# Altium schematic symbol library kmilo17pet-LT_OpAmp_LT2000.SchLib: 1710 symbols (part 73 of 75)
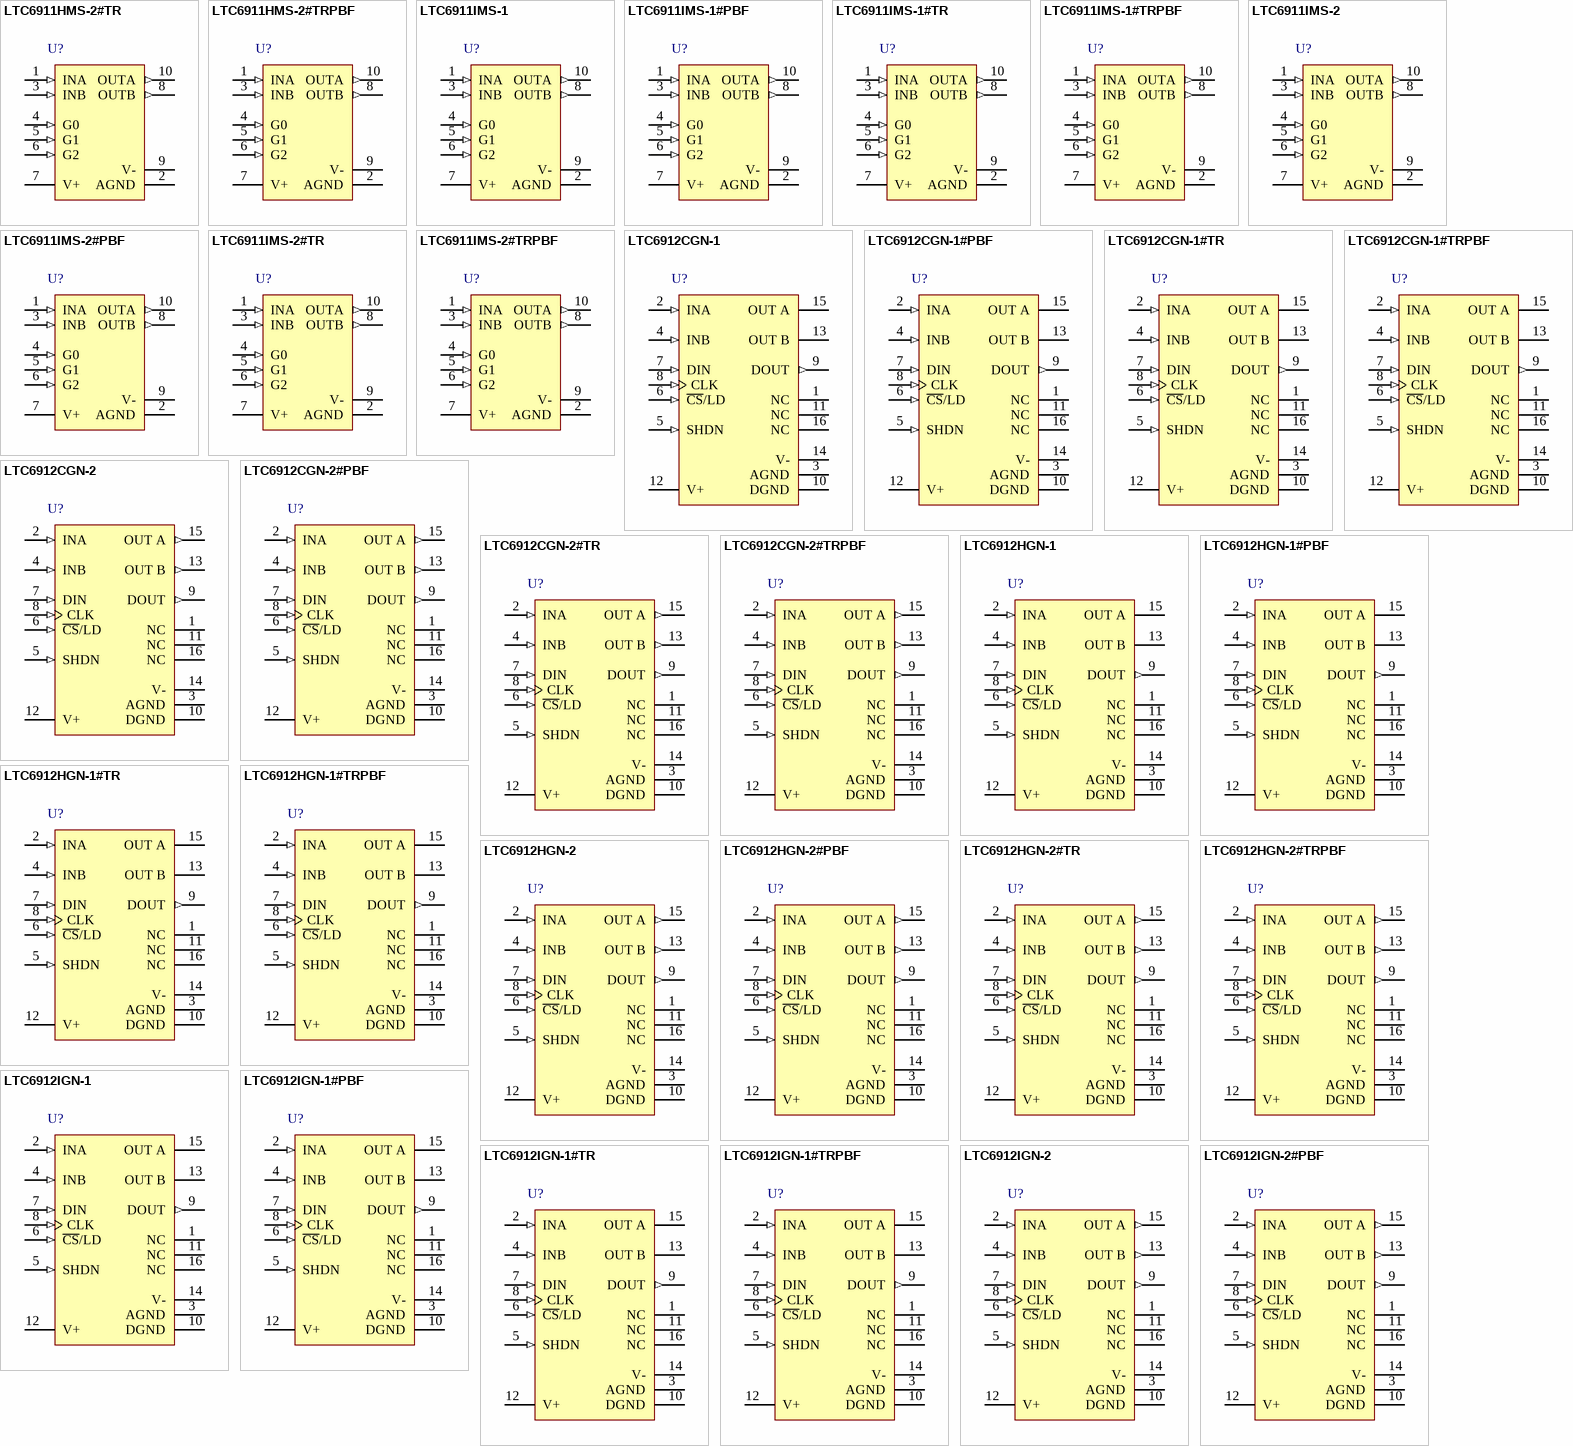
[diagram p152: symbols LTC6911HMS-2#TR to LTC6912IGN-2#PBF]

## LTC6912CGN-1
designator U?
Dual Channel, Dual Programmable Gain Amplifier with Serial Digital Interface, 30 MHz Typical GBW, 16 V/us Typical SR, 2.7 to 10.5 V, 16-Pin SOP (GN-16), Commercial; Linear Technology Part Number: LTC6912-1; Manufacturer: Linear Technology; PartNumber: LTC6912CGN-1; Channels (#): 2; GBW (MHz) Typical: 30; Is (mA) Typical: 1.75; SR (V/us) Typical: 16; Vs Max (V): 10.5; Vs Min (V): 2.7; DatasheetVersion: Rev. A; PackageVersion: Rev B; PackageReference: LT-GN-16; PackageDescription: 16-Lead Plastic SSOP, Body 4.9 x 3.9 mm, Pitch 0.635 mm; Type: PGA; Vos (mV) Typical: 2; Mounting Technology: Surface Mount; ComponentLink1Description: Manufacturer URL; ComponentLink1URL: http://www.linear.com/; ComponentLink2Description: Datasheet; ComponentLink2URL: http://cds.linear.com/docs/en/datasheet/6912fa.pdf; ComponentLink3Description: Package Specification; ComponentLink3URL: http://cds.linear.com/docs/en/packaging/05081641_B_GN16.pdf
footprint LT-GN-16_N (SOP, 16-Leads, Body 4.9x3.9mm, Pitch 0.635mm, IPC Medium Density)
footprint LT-GN-16_L (SOP, 16-Leads, Body 4.9x3.9mm, Pitch 0.635mm, IPC High Density)
footprint LT-GN-16_M (SOP, 16-Leads, Body 4.9x3.9mm, Pitch 0.635mm, IPC Low Density)
pins: 1 NC, 2 INA (in) "Analog Inputs. The input signal to the A channel amplifier of the LTC6912-X is the voltage difference between the INA pin and AGND pin. Likewise, the input signal to the B channel amplifier of the LTC6912-X is the voltage (See Datasheet)", 3 AGND (power), 4 INB (in) "Analog Inputs. The input signal to the A channel amplifier of the LTC6912-X is the voltage difference between the INA pin and AGND pin. Likewise, the input signal to the B channel amplifier of the LTC6912-X is the voltage (See Datasheet)", 5 SHDN (in) "CMOS Compatible Logic Hardware Shutdown Input. The LTC6912-X has two shutdown modes. One is a software shutdown state which can be software programmed into either Channel A, Channel B, or both. The software shutdown, when (See Datasheet)", 6 ~{CS}/LD (in) "TTL/CMOS Compatible Logic Input. When this pin is asserted low, the CLK pin is enabled, and the 8-bit shift register serially shifts the shift register contents and whatever data is present on the DIN pin into the shift (See Datasheet)", 7 DIN (in) "TTL/CMOS Compatible Logic Serial Data Input. The serial interface is synchronously loaded MSB first via DIN on the rising edge of CLK with C\S\/LD asserted low.", 8 CLK (in) "TTL/CMOS Compatible Logic Input. With C\S\/LD asserted low, the clock synchronizes the loading of the serial shift register on its rising and falling edges. Data is shifted in at DIN on the rising edge of CLK and is shifted (See Datasheet)", 9 DOUT (out) "TTL/CMOS Compatible Logic Output. The MSB of the shift register contents is shifted out at DOUT on the falling edge of CLK. The output at DOUT swings between V+ and DGND, and is rated to drive approximately 15pF.", 10 DGND (power) "Digital Ground: The DGND pin defines the potential from which LOGIC levels VIH and VIL for the 3-wire serial digital interface are referenced. The recommended connection of DGND depends on how power is applied to the LTC6912 (See Datasheet)", 11 NC, 12 V+ (power) "Power Supply Pins. The V+ and V- pins should be bypassed with 0.1uF capacitors to an adequate analog ground plane using the shortest possible wiring. Electrically clean supplies and a low impedance ground are important for (See Datasheet)", 13 OUT B (hiz) "Analog Output. These pins are the output of the A and B channel amplifiers respectively. Each operational amplifier can swing rail-to-rail (V+ to V-) as specified in the Electrical Characteristics table. For best (See Datasheet)", 14 V- (power) "Power Supply Pins. The V+ and V- pins should be bypassed with 0.1uF capacitors to an adequate analog ground plane using the shortest possible wiring. Electrically clean supplies and a low impedance ground are important for (See Datasheet)", 15 OUT A (hiz) "Analog Output. These pins are the output of the A and B channel amplifiers respectively. Each operational amplifier can swing rail-to-rail (V+ to V-) as specified in the Electrical Characteristics table. For best (See Datasheet)", 16 NC

## LTC6912CGN-1#PBF
designator U?
Dual Channel, Dual Programmable Gain Amplifier with Serial Digital Interface, 30 MHz Typical GBW, 16 V/us Typical SR, 2.7 to 10.5 V, 16-Pin SOP (GN-16), Commercial, Pb-Free; Linear Technology Part Number: LTC6912-1; Manufacturer: Linear Technology; PartNumber: LTC6912CGN-1#PBF; Channels (#): 2; GBW (MHz) Typical: 30; Is (mA) Typical: 1.75; SR (V/us) Typical: 16; Vs Max (V): 10.5; Vs Min (V): 2.7; DatasheetVersion: Rev. A; PackageVersion: Rev B; PackageReference: LT-GN-16; PackageDescription: 16-Lead Plastic SSOP, Body 4.9 x 3.9 mm, Pitch 0.635 mm; Supplier 1: Digi-Key; Supplier Part Number 1: LTC6912CGN-1#PBF-ND; Supplier 2: Farnell; Supplier Part Number 2: 1330978; Supplier 3: Newark; Supplier Part Number 3: 57M0397; RoHS: Pb-Free; Type: PGA; Vos (mV) Typical: 2; Mounting Technology: Surface Mount; ComponentLink1Description: Manufacturer URL; ComponentLink1URL: http://www.linear.com/; ComponentLink2Description: Datasheet; ComponentLink2URL: http://cds.linear.com/docs/en/datasheet/6912fa.pdf; ComponentLink3Description: Package Specification; ComponentLink3URL: http://cds.linear.com/docs/en/packaging/05081641_B_GN16.pdf
footprint LT-GN-16_N (SOP, 16-Leads, Body 4.9x3.9mm, Pitch 0.635mm, IPC Medium Density)
footprint LT-GN-16_L (SOP, 16-Leads, Body 4.9x3.9mm, Pitch 0.635mm, IPC High Density)
footprint LT-GN-16_M (SOP, 16-Leads, Body 4.9x3.9mm, Pitch 0.635mm, IPC Low Density)
pins: 1 NC, 2 INA (in) "Analog Inputs. The input signal to the A channel amplifier of the LTC6912-X is the voltage difference between the INA pin and AGND pin. Likewise, the input signal to the B channel amplifier of the LTC6912-X is the voltage (See Datasheet)", 3 AGND (power), 4 INB (in) "Analog Inputs. The input signal to the A channel amplifier of the LTC6912-X is the voltage difference between the INA pin and AGND pin. Likewise, the input signal to the B channel amplifier of the LTC6912-X is the voltage (See Datasheet)", 5 SHDN (in) "CMOS Compatible Logic Hardware Shutdown Input. The LTC6912-X has two shutdown modes. One is a software shutdown state which can be software programmed into either Channel A, Channel B, or both. The software shutdown, when (See Datasheet)", 6 ~{CS}/LD (in) "TTL/CMOS Compatible Logic Input. When this pin is asserted low, the CLK pin is enabled, and the 8-bit shift register serially shifts the shift register contents and whatever data is present on the DIN pin into the shift (See Datasheet)", 7 DIN (in) "TTL/CMOS Compatible Logic Serial Data Input. The serial interface is synchronously loaded MSB first via DIN on the rising edge of CLK with C\S\/LD asserted low.", 8 CLK (in) "TTL/CMOS Compatible Logic Input. With C\S\/LD asserted low, the clock synchronizes the loading of the serial shift register on its rising and falling edges. Data is shifted in at DIN on the rising edge of CLK and is shifted (See Datasheet)", 9 DOUT (out) "TTL/CMOS Compatible Logic Output. The MSB of the shift register contents is shifted out at DOUT on the falling edge of CLK. The output at DOUT swings between V+ and DGND, and is rated to drive approximately 15pF.", 10 DGND (power) "Digital Ground: The DGND pin defines the potential from which LOGIC levels VIH and VIL for the 3-wire serial digital interface are referenced. The recommended connection of DGND depends on how power is applied to the LTC6912 (See Datasheet)", 11 NC, 12 V+ (power) "Power Supply Pins. The V+ and V- pins should be bypassed with 0.1uF capacitors to an adequate analog ground plane using the shortest possible wiring. Electrically clean supplies and a low impedance ground are important for (See Datasheet)", 13 OUT B (hiz) "Analog Output. These pins are the output of the A and B channel amplifiers respectively. Each operational amplifier can swing rail-to-rail (V+ to V-) as specified in the Electrical Characteristics table. For best (See Datasheet)", 14 V- (power) "Power Supply Pins. The V+ and V- pins should be bypassed with 0.1uF capacitors to an adequate analog ground plane using the shortest possible wiring. Electrically clean supplies and a low impedance ground are important for (See Datasheet)", 15 OUT A (hiz) "Analog Output. These pins are the output of the A and B channel amplifiers respectively. Each operational amplifier can swing rail-to-rail (V+ to V-) as specified in the Electrical Characteristics table. For best (See Datasheet)", 16 NC

## LTC6912CGN-1#TR
designator U?
Dual Channel, Dual Programmable Gain Amplifier with Serial Digital Interface, 30 MHz Typical GBW, 16 V/us Typical SR, 2.7 to 10.5 V, 16-Pin SOP (GN-16), Commercial, Reel; Linear Technology Part Number: LTC6912-1; Manufacturer: Linear Technology; PartNumber: LTC6912CGN-1#TR; Channels (#): 2; GBW (MHz) Typical: 30; Is (mA) Typical: 1.75; SR (V/us) Typical: 16; Vs Max (V): 10.5; Vs Min (V): 2.7; DatasheetVersion: Rev. A; PackageVersion: Rev B; PackageReference: LT-GN-16; PackageDescription: 16-Lead Plastic SSOP, Body 4.9 x 3.9 mm, Pitch 0.635 mm; Packing: Reel; Type: PGA; Vos (mV) Typical: 2; Mounting Technology: Surface Mount; ComponentLink1Description: Manufacturer URL; ComponentLink1URL: http://www.linear.com/; ComponentLink2Description: Datasheet; ComponentLink2URL: http://cds.linear.com/docs/en/datasheet/6912fa.pdf; ComponentLink3Description: Package Specification; ComponentLink3URL: http://cds.linear.com/docs/en/packaging/05081641_B_GN16.pdf
footprint LT-GN-16_N (SOP, 16-Leads, Body 4.9x3.9mm, Pitch 0.635mm, IPC Medium Density)
footprint LT-GN-16_L (SOP, 16-Leads, Body 4.9x3.9mm, Pitch 0.635mm, IPC High Density)
footprint LT-GN-16_M (SOP, 16-Leads, Body 4.9x3.9mm, Pitch 0.635mm, IPC Low Density)
pins: 1 NC, 2 INA (in) "Analog Inputs. The input signal to the A channel amplifier of the LTC6912-X is the voltage difference between the INA pin and AGND pin. Likewise, the input signal to the B channel amplifier of the LTC6912-X is the voltage (See Datasheet)", 3 AGND (power), 4 INB (in) "Analog Inputs. The input signal to the A channel amplifier of the LTC6912-X is the voltage difference between the INA pin and AGND pin. Likewise, the input signal to the B channel amplifier of the LTC6912-X is the voltage (See Datasheet)", 5 SHDN (in) "CMOS Compatible Logic Hardware Shutdown Input. The LTC6912-X has two shutdown modes. One is a software shutdown state which can be software programmed into either Channel A, Channel B, or both. The software shutdown, when (See Datasheet)", 6 ~{CS}/LD (in) "TTL/CMOS Compatible Logic Input. When this pin is asserted low, the CLK pin is enabled, and the 8-bit shift register serially shifts the shift register contents and whatever data is present on the DIN pin into the shift (See Datasheet)", 7 DIN (in) "TTL/CMOS Compatible Logic Serial Data Input. The serial interface is synchronously loaded MSB first via DIN on the rising edge of CLK with C\S\/LD asserted low.", 8 CLK (in) "TTL/CMOS Compatible Logic Input. With C\S\/LD asserted low, the clock synchronizes the loading of the serial shift register on its rising and falling edges. Data is shifted in at DIN on the rising edge of CLK and is shifted (See Datasheet)", 9 DOUT (out) "TTL/CMOS Compatible Logic Output. The MSB of the shift register contents is shifted out at DOUT on the falling edge of CLK. The output at DOUT swings between V+ and DGND, and is rated to drive approximately 15pF.", 10 DGND (power) "Digital Ground: The DGND pin defines the potential from which LOGIC levels VIH and VIL for the 3-wire serial digital interface are referenced. The recommended connection of DGND depends on how power is applied to the LTC6912 (See Datasheet)", 11 NC, 12 V+ (power) "Power Supply Pins. The V+ and V- pins should be bypassed with 0.1uF capacitors to an adequate analog ground plane using the shortest possible wiring. Electrically clean supplies and a low impedance ground are important for (See Datasheet)", 13 OUT B (hiz) "Analog Output. These pins are the output of the A and B channel amplifiers respectively. Each operational amplifier can swing rail-to-rail (V+ to V-) as specified in the Electrical Characteristics table. For best (See Datasheet)", 14 V- (power) "Power Supply Pins. The V+ and V- pins should be bypassed with 0.1uF capacitors to an adequate analog ground plane using the shortest possible wiring. Electrically clean supplies and a low impedance ground are important for (See Datasheet)", 15 OUT A (hiz) "Analog Output. These pins are the output of the A and B channel amplifiers respectively. Each operational amplifier can swing rail-to-rail (V+ to V-) as specified in the Electrical Characteristics table. For best (See Datasheet)", 16 NC

## LTC6912CGN-1#TRPBF
designator U?
Dual Channel, Dual Programmable Gain Amplifier with Serial Digital Interface, 30 MHz Typical GBW, 16 V/us Typical SR, 2.7 to 10.5 V, 16-Pin SOP (GN-16), Commercial, Pb-Free, Reel; Linear Technology Part Number: LTC6912-1; Manufacturer: Linear Technology; PartNumber: LTC6912CGN-1#TRPBF; Channels (#): 2; GBW (MHz) Typical: 30; Is (mA) Typical: 1.75; SR (V/us) Typical: 16; Vs Max (V): 10.5; Vs Min (V): 2.7; DatasheetVersion: Rev. A; PackageVersion: Rev B; PackageReference: LT-GN-16; PackageDescription: 16-Lead Plastic SSOP, Body 4.9 x 3.9 mm, Pitch 0.635 mm; Supplier 1: Digi-Key; Supplier Part Number 1: LTC6912CGN-1#TRPBF-ND; Packing: Reel; RoHS: Pb-Free; Type: PGA; Vos (mV) Typical: 2; Mounting Technology: Surface Mount; ComponentLink1Description: Manufacturer URL; ComponentLink1URL: http://www.linear.com/; ComponentLink2Description: Datasheet; ComponentLink2URL: http://cds.linear.com/docs/en/datasheet/6912fa.pdf; ComponentLink3Description: Package Specification; ComponentLink3URL: http://cds.linear.com/docs/en/packaging/05081641_B_GN16.pdf
footprint LT-GN-16_N (SOP, 16-Leads, Body 4.9x3.9mm, Pitch 0.635mm, IPC Medium Density)
footprint LT-GN-16_L (SOP, 16-Leads, Body 4.9x3.9mm, Pitch 0.635mm, IPC High Density)
footprint LT-GN-16_M (SOP, 16-Leads, Body 4.9x3.9mm, Pitch 0.635mm, IPC Low Density)
pins: 1 NC, 2 INA (in) "Analog Inputs. The input signal to the A channel amplifier of the LTC6912-X is the voltage difference between the INA pin and AGND pin. Likewise, the input signal to the B channel amplifier of the LTC6912-X is the voltage (See Datasheet)", 3 AGND (power), 4 INB (in) "Analog Inputs. The input signal to the A channel amplifier of the LTC6912-X is the voltage difference between the INA pin and AGND pin. Likewise, the input signal to the B channel amplifier of the LTC6912-X is the voltage (See Datasheet)", 5 SHDN (in) "CMOS Compatible Logic Hardware Shutdown Input. The LTC6912-X has two shutdown modes. One is a software shutdown state which can be software programmed into either Channel A, Channel B, or both. The software shutdown, when (See Datasheet)", 6 ~{CS}/LD (in) "TTL/CMOS Compatible Logic Input. When this pin is asserted low, the CLK pin is enabled, and the 8-bit shift register serially shifts the shift register contents and whatever data is present on the DIN pin into the shift (See Datasheet)", 7 DIN (in) "TTL/CMOS Compatible Logic Serial Data Input. The serial interface is synchronously loaded MSB first via DIN on the rising edge of CLK with C\S\/LD asserted low.", 8 CLK (in) "TTL/CMOS Compatible Logic Input. With C\S\/LD asserted low, the clock synchronizes the loading of the serial shift register on its rising and falling edges. Data is shifted in at DIN on the rising edge of CLK and is shifted (See Datasheet)", 9 DOUT (out) "TTL/CMOS Compatible Logic Output. The MSB of the shift register contents is shifted out at DOUT on the falling edge of CLK. The output at DOUT swings between V+ and DGND, and is rated to drive approximately 15pF.", 10 DGND (power) "Digital Ground: The DGND pin defines the potential from which LOGIC levels VIH and VIL for the 3-wire serial digital interface are referenced. The recommended connection of DGND depends on how power is applied to the LTC6912 (See Datasheet)", 11 NC, 12 V+ (power) "Power Supply Pins. The V+ and V- pins should be bypassed with 0.1uF capacitors to an adequate analog ground plane using the shortest possible wiring. Electrically clean supplies and a low impedance ground are important for (See Datasheet)", 13 OUT B (hiz) "Analog Output. These pins are the output of the A and B channel amplifiers respectively. Each operational amplifier can swing rail-to-rail (V+ to V-) as specified in the Electrical Characteristics table. For best (See Datasheet)", 14 V- (power) "Power Supply Pins. The V+ and V- pins should be bypassed with 0.1uF capacitors to an adequate analog ground plane using the shortest possible wiring. Electrically clean supplies and a low impedance ground are important for (See Datasheet)", 15 OUT A (hiz) "Analog Output. These pins are the output of the A and B channel amplifiers respectively. Each operational amplifier can swing rail-to-rail (V+ to V-) as specified in the Electrical Characteristics table. For best (See Datasheet)", 16 NC

## LTC6912CGN-2
designator U?
Dual Channel, Dual Programmable Gain Amplifier with Serial Digital Interface, 30 MHz Typical GBW, 16 V/us Typical SR, 2.7 to 10.5 V, 16-Pin SOP (GN-16), Commercial; Linear Technology Part Number: LTC6912-2; Manufacturer: Linear Technology; PartNumber: LTC6912CGN-2; Channels (#): 2; GBW (MHz) Typical: 30; Is (mA) Typical: 1.75; SR (V/us) Typical: 16; Vs Max (V): 10.5; Vs Min (V): 2.7; DatasheetVersion: Rev. A; PackageVersion: Rev B; PackageReference: LT-GN-16; PackageDescription: 16-Lead Plastic SSOP, Body 4.9 x 3.9 mm, Pitch 0.635 mm; Type: PGA; Vos (mV) Typical: 2; Mounting Technology: Surface Mount; ComponentLink1Description: Manufacturer URL; ComponentLink1URL: http://www.linear.com/; ComponentLink2Description: Datasheet; ComponentLink2URL: http://cds.linear.com/docs/en/datasheet/6912fa.pdf; ComponentLink3Description: Package Specification; ComponentLink3URL: http://cds.linear.com/docs/en/packaging/05081641_B_GN16.pdf
footprint LT-GN-16_N (SOP, 16-Leads, Body 4.9x3.9mm, Pitch 0.635mm, IPC Medium Density)
footprint LT-GN-16_L (SOP, 16-Leads, Body 4.9x3.9mm, Pitch 0.635mm, IPC High Density)
footprint LT-GN-16_M (SOP, 16-Leads, Body 4.9x3.9mm, Pitch 0.635mm, IPC Low Density)
pins: 1 NC, 2 INA (in) "Analog Inputs.", 3 AGND (power) "Analog Ground.", 4 INB (in) "Analog Inputs.", 5 SHDN (in) "CMOS Compatible Logic Hardware Shutdown Input.", 6 ~{CS}/LD (in) "TTL/CMOS Compatible Logic Input.", 7 DIN (in) "TTL/CMOS Compatible Logic Serial Data Input.", 8 CLK (in) "TTL/CMOS Compatible Logic Input.", 9 DOUT (out) "TTL/CMOS Compatible Logic Output.", 10 DGND (power) "Digital Ground: The DGND pin defines the potential from which LOGIC levels VIH and VIL for the 3-wire serial digital interface are referenced.", 11 NC, 12 V+ (power) "Power Supply Pins.", 13 OUT B (out) "Analog Output.", 14 V- (power) "Power Supply Pins.", 15 OUT A (out) "Analog Output.", 16 NC

## LTC6912CGN-2#PBF
designator U?
Dual Channel, Dual Programmable Gain Amplifier with Serial Digital Interface, 30 MHz Typical GBW, 16 V/us Typical SR, 2.7 to 10.5 V, 16-Pin SOP (GN-16), Commercial, Pb-Free; Linear Technology Part Number: LTC6912-2; Manufacturer: Linear Technology; PartNumber: LTC6912CGN-2#PBF; Channels (#): 2; GBW (MHz) Typical: 30; Is (mA) Typical: 1.75; SR (V/us) Typical: 16; Vs Max (V): 10.5; Vs Min (V): 2.7; DatasheetVersion: Rev. A; PackageVersion: Rev B; PackageReference: LT-GN-16; PackageDescription: 16-Lead Plastic SSOP, Body 4.9 x 3.9 mm, Pitch 0.635 mm; Supplier 1: Digi-Key; Supplier Part Number 1: LTC6912CGN-2#PBF-ND; Supplier 2: Farnell; Supplier Part Number 2: 1330979; Supplier 3: Newark; Supplier Part Number 3: 57M0401; RoHS: Pb-Free; Type: PGA; Vos (mV) Typical: 2; Mounting Technology: Surface Mount; ComponentLink1Description: Manufacturer URL; ComponentLink1URL: http://www.linear.com/; ComponentLink2Description: Datasheet; ComponentLink2URL: http://cds.linear.com/docs/en/datasheet/6912fa.pdf; ComponentLink3Description: Package Specification; ComponentLink3URL: http://cds.linear.com/docs/en/packaging/05081641_B_GN16.pdf
footprint LT-GN-16_N (SOP, 16-Leads, Body 4.9x3.9mm, Pitch 0.635mm, IPC Medium Density)
footprint LT-GN-16_L (SOP, 16-Leads, Body 4.9x3.9mm, Pitch 0.635mm, IPC High Density)
footprint LT-GN-16_M (SOP, 16-Leads, Body 4.9x3.9mm, Pitch 0.635mm, IPC Low Density)
pins: 1 NC, 2 INA (in) "Analog Inputs.", 3 AGND (power) "Analog Ground.", 4 INB (in) "Analog Inputs.", 5 SHDN (in) "CMOS Compatible Logic Hardware Shutdown Input.", 6 ~{CS}/LD (in) "TTL/CMOS Compatible Logic Input.", 7 DIN (in) "TTL/CMOS Compatible Logic Serial Data Input.", 8 CLK (in) "TTL/CMOS Compatible Logic Input.", 9 DOUT (out) "TTL/CMOS Compatible Logic Output.", 10 DGND (power) "Digital Ground: The DGND pin defines the potential from which LOGIC levels VIH and VIL for the 3-wire serial digital interface are referenced.", 11 NC, 12 V+ (power) "Power Supply Pins.", 13 OUT B (out) "Analog Output.", 14 V- (power) "Power Supply Pins.", 15 OUT A (out) "Analog Output.", 16 NC

## LTC6912CGN-2#TR
designator U?
Dual Channel, Dual Programmable Gain Amplifier with Serial Digital Interface, 30 MHz Typical GBW, 16 V/us Typical SR, 2.7 to 10.5 V, 16-Pin SOP (GN-16), Commercial, Reel; Linear Technology Part Number: LTC6912-2; Manufacturer: Linear Technology; PartNumber: LTC6912CGN-2#TR; Channels (#): 2; GBW (MHz) Typical: 30; Is (mA) Typical: 1.75; SR (V/us) Typical: 16; Vs Max (V): 10.5; Vs Min (V): 2.7; DatasheetVersion: Rev. A; PackageVersion: Rev B; PackageReference: LT-GN-16; PackageDescription: 16-Lead Plastic SSOP, Body 4.9 x 3.9 mm, Pitch 0.635 mm; Packing: Reel; Type: PGA; Vos (mV) Typical: 2; Mounting Technology: Surface Mount; ComponentLink1Description: Manufacturer URL; ComponentLink1URL: http://www.linear.com/; ComponentLink2Description: Datasheet; ComponentLink2URL: http://cds.linear.com/docs/en/datasheet/6912fa.pdf; ComponentLink3Description: Package Specification; ComponentLink3URL: http://cds.linear.com/docs/en/packaging/05081641_B_GN16.pdf
footprint LT-GN-16_N (SOP, 16-Leads, Body 4.9x3.9mm, Pitch 0.635mm, IPC Medium Density)
footprint LT-GN-16_L (SOP, 16-Leads, Body 4.9x3.9mm, Pitch 0.635mm, IPC High Density)
footprint LT-GN-16_M (SOP, 16-Leads, Body 4.9x3.9mm, Pitch 0.635mm, IPC Low Density)
pins: 1 NC, 2 INA (in) "Analog Inputs.", 3 AGND (power) "Analog Ground.", 4 INB (in) "Analog Inputs.", 5 SHDN (in) "CMOS Compatible Logic Hardware Shutdown Input.", 6 ~{CS}/LD (in) "TTL/CMOS Compatible Logic Input.", 7 DIN (in) "TTL/CMOS Compatible Logic Serial Data Input.", 8 CLK (in) "TTL/CMOS Compatible Logic Input.", 9 DOUT (out) "TTL/CMOS Compatible Logic Output.", 10 DGND (power) "Digital Ground: The DGND pin defines the potential from which LOGIC levels VIH and VIL for the 3-wire serial digital interface are referenced.", 11 NC, 12 V+ (power) "Power Supply Pins.", 13 OUT B (out) "Analog Output.", 14 V- (power) "Power Supply Pins.", 15 OUT A (out) "Analog Output.", 16 NC

## LTC6912CGN-2#TRPBF
designator U?
Dual Channel, Dual Programmable Gain Amplifier with Serial Digital Interface, 30 MHz Typical GBW, 16 V/us Typical SR, 2.7 to 10.5 V, 16-Pin SOP (GN-16), Commercial, Pb-Free, Reel; Linear Technology Part Number: LTC6912-2; Manufacturer: Linear Technology; PartNumber: LTC6912CGN-2#TRPBF; Channels (#): 2; GBW (MHz) Typical: 30; Is (mA) Typical: 1.75; SR (V/us) Typical: 16; Vs Max (V): 10.5; Vs Min (V): 2.7; DatasheetVersion: Rev. A; PackageVersion: Rev B; PackageReference: LT-GN-16; PackageDescription: 16-Lead Plastic SSOP, Body 4.9 x 3.9 mm, Pitch 0.635 mm; Supplier 1: Digi-Key; Supplier Part Number 1: LTC6912CGN-2#TRPBF-ND; Packing: Reel; RoHS: Pb-Free; Type: PGA; Vos (mV) Typical: 2; Mounting Technology: Surface Mount; ComponentLink1Description: Manufacturer URL; ComponentLink1URL: http://www.linear.com/; ComponentLink2Description: Datasheet; ComponentLink2URL: http://cds.linear.com/docs/en/datasheet/6912fa.pdf; ComponentLink3Description: Package Specification; ComponentLink3URL: http://cds.linear.com/docs/en/packaging/05081641_B_GN16.pdf
footprint LT-GN-16_N (SOP, 16-Leads, Body 4.9x3.9mm, Pitch 0.635mm, IPC Medium Density)
footprint LT-GN-16_L (SOP, 16-Leads, Body 4.9x3.9mm, Pitch 0.635mm, IPC High Density)
footprint LT-GN-16_M (SOP, 16-Leads, Body 4.9x3.9mm, Pitch 0.635mm, IPC Low Density)
pins: 1 NC, 2 INA (in) "Analog Inputs.", 3 AGND (power) "Analog Ground.", 4 INB (in) "Analog Inputs.", 5 SHDN (in) "CMOS Compatible Logic Hardware Shutdown Input.", 6 ~{CS}/LD (in) "TTL/CMOS Compatible Logic Input.", 7 DIN (in) "TTL/CMOS Compatible Logic Serial Data Input.", 8 CLK (in) "TTL/CMOS Compatible Logic Input.", 9 DOUT (out) "TTL/CMOS Compatible Logic Output.", 10 DGND (power) "Digital Ground: The DGND pin defines the potential from which LOGIC levels VIH and VIL for the 3-wire serial digital interface are referenced.", 11 NC, 12 V+ (power) "Power Supply Pins.", 13 OUT B (out) "Analog Output.", 14 V- (power) "Power Supply Pins.", 15 OUT A (out) "Analog Output.", 16 NC

## LTC6912HGN-1
designator U?
Dual Channel, Dual Programmable Gain Amplifier with Serial Digital Interface, 30 MHz Typical GBW, 16 V/us Typical SR, 2.7 to 10.5 V, 16-Pin SOP (GN-16), High Temperature / Automotive; Linear Technology Part Number: LTC6912-1; Manufacturer: Linear Technology; PartNumber: LTC6912HGN-1; Channels (#): 2; GBW (MHz) Typical: 30; Is (mA) Typical: 1.75; SR (V/us) Typical: 16; Vs Max (V): 10.5; Vs Min (V): 2.7; DatasheetVersion: Rev. A; PackageVersion: Rev B; PackageReference: LT-GN-16; PackageDescription: 16-Lead Plastic SSOP, Body 4.9 x 3.9 mm, Pitch 0.635 mm; Type: PGA; Vos (mV) Typical: 2; Mounting Technology: Surface Mount; ComponentLink1Description: Manufacturer URL; ComponentLink1URL: http://www.linear.com/; ComponentLink2Description: Datasheet; ComponentLink2URL: http://cds.linear.com/docs/en/datasheet/6912fa.pdf; ComponentLink3Description: Package Specification; ComponentLink3URL: http://cds.linear.com/docs/en/packaging/05081641_B_GN16.pdf
footprint LT-GN-16_N (SOP, 16-Leads, Body 4.9x3.9mm, Pitch 0.635mm, IPC Medium Density)
footprint LT-GN-16_L (SOP, 16-Leads, Body 4.9x3.9mm, Pitch 0.635mm, IPC High Density)
footprint LT-GN-16_M (SOP, 16-Leads, Body 4.9x3.9mm, Pitch 0.635mm, IPC Low Density)
pins: 1 NC, 2 INA (in) "Analog Inputs. The input signal to the A channel amplifier of the LTC6912-X is the voltage difference between the INA pin and AGND pin. Likewise, the input signal to the B channel amplifier of the LTC6912-X is the voltage (See Datasheet)", 3 AGND (power), 4 INB (in) "Analog Inputs. The input signal to the A channel amplifier of the LTC6912-X is the voltage difference between the INA pin and AGND pin. Likewise, the input signal to the B channel amplifier of the LTC6912-X is the voltage (See Datasheet)", 5 SHDN (in) "CMOS Compatible Logic Hardware Shutdown Input. The LTC6912-X has two shutdown modes. One is a software shutdown state which can be software programmed into either Channel A, Channel B, or both. The software shutdown, when (See Datasheet)", 6 ~{CS}/LD (in) "TTL/CMOS Compatible Logic Input. When this pin is asserted low, the CLK pin is enabled, and the 8-bit shift register serially shifts the shift register contents and whatever data is present on the DIN pin into the shift (See Datasheet)", 7 DIN (in) "TTL/CMOS Compatible Logic Serial Data Input. The serial interface is synchronously loaded MSB first via DIN on the rising edge of CLK with C\S\/LD asserted low.", 8 CLK (in) "TTL/CMOS Compatible Logic Input. With C\S\/LD asserted low, the clock synchronizes the loading of the serial shift register on its rising and falling edges. Data is shifted in at DIN on the rising edge of CLK and is shifted (See Datasheet)", 9 DOUT (out) "TTL/CMOS Compatible Logic Output. The MSB of the shift register contents is shifted out at DOUT on the falling edge of CLK. The output at DOUT swings between V+ and DGND, and is rated to drive approximately 15pF.", 10 DGND (power) "Digital Ground: The DGND pin defines the potential from which LOGIC levels VIH and VIL for the 3-wire serial digital interface are referenced. The recommended connection of DGND depends on how power is applied to the LTC6912 (See Datasheet)", 11 NC, 12 V+ (power) "Power Supply Pins. The V+ and V- pins should be bypassed with 0.1uF capacitors to an adequate analog ground plane using the shortest possible wiring. Electrically clean supplies and a low impedance ground are important for (See Datasheet)", 13 OUT B (hiz) "Analog Output. These pins are the output of the A and B channel amplifiers respectively. Each operational amplifier can swing rail-to-rail (V+ to V-) as specified in the Electrical Characteristics table. For best (See Datasheet)", 14 V- (power) "Power Supply Pins. The V+ and V- pins should be bypassed with 0.1uF capacitors to an adequate analog ground plane using the shortest possible wiring. Electrically clean supplies and a low impedance ground are important for (See Datasheet)", 15 OUT A (hiz) "Analog Output. These pins are the output of the A and B channel amplifiers respectively. Each operational amplifier can swing rail-to-rail (V+ to V-) as specified in the Electrical Characteristics table. For best (See Datasheet)", 16 NC

## LTC6912HGN-1#PBF
designator U?
Dual Channel, Dual Programmable Gain Amplifier with Serial Digital Interface, 30 MHz Typical GBW, 16 V/us Typical SR, 2.7 to 10.5 V, 16-Pin SOP (GN-16), High Temperature / Automotive, Pb-Free; Linear Technology Part Number: LTC6912-1; Manufacturer: Linear Technology; PartNumber: LTC6912HGN-1#PBF; Channels (#): 2; GBW (MHz) Typical: 30; Is (mA) Typical: 1.75; SR (V/us) Typical: 16; Vs Max (V): 10.5; Vs Min (V): 2.7; DatasheetVersion: Rev. A; PackageVersion: Rev B; PackageReference: LT-GN-16; PackageDescription: 16-Lead Plastic SSOP, Body 4.9 x 3.9 mm, Pitch 0.635 mm; Supplier 1: Digi-Key; Supplier Part Number 1: LTC6912HGN-1#PBF-ND; RoHS: Pb-Free; Type: PGA; Vos (mV) Typical: 2; Mounting Technology: Surface Mount; ComponentLink1Description: Manufacturer URL; ComponentLink1URL: http://www.linear.com/; ComponentLink2Description: Datasheet; ComponentLink2URL: http://cds.linear.com/docs/en/datasheet/6912fa.pdf; ComponentLink3Description: Package Specification; ComponentLink3URL: http://cds.linear.com/docs/en/packaging/05081641_B_GN16.pdf
footprint LT-GN-16_N (SOP, 16-Leads, Body 4.9x3.9mm, Pitch 0.635mm, IPC Medium Density)
footprint LT-GN-16_L (SOP, 16-Leads, Body 4.9x3.9mm, Pitch 0.635mm, IPC High Density)
footprint LT-GN-16_M (SOP, 16-Leads, Body 4.9x3.9mm, Pitch 0.635mm, IPC Low Density)
pins: 1 NC, 2 INA (in) "Analog Inputs. The input signal to the A channel amplifier of the LTC6912-X is the voltage difference between the INA pin and AGND pin. Likewise, the input signal to the B channel amplifier of the LTC6912-X is the voltage (See Datasheet)", 3 AGND (power), 4 INB (in) "Analog Inputs. The input signal to the A channel amplifier of the LTC6912-X is the voltage difference between the INA pin and AGND pin. Likewise, the input signal to the B channel amplifier of the LTC6912-X is the voltage (See Datasheet)", 5 SHDN (in) "CMOS Compatible Logic Hardware Shutdown Input. The LTC6912-X has two shutdown modes. One is a software shutdown state which can be software programmed into either Channel A, Channel B, or both. The software shutdown, when (See Datasheet)", 6 ~{CS}/LD (in) "TTL/CMOS Compatible Logic Input. When this pin is asserted low, the CLK pin is enabled, and the 8-bit shift register serially shifts the shift register contents and whatever data is present on the DIN pin into the shift (See Datasheet)", 7 DIN (in) "TTL/CMOS Compatible Logic Serial Data Input. The serial interface is synchronously loaded MSB first via DIN on the rising edge of CLK with C\S\/LD asserted low.", 8 CLK (in) "TTL/CMOS Compatible Logic Input. With C\S\/LD asserted low, the clock synchronizes the loading of the serial shift register on its rising and falling edges. Data is shifted in at DIN on the rising edge of CLK and is shifted (See Datasheet)", 9 DOUT (out) "TTL/CMOS Compatible Logic Output. The MSB of the shift register contents is shifted out at DOUT on the falling edge of CLK. The output at DOUT swings between V+ and DGND, and is rated to drive approximately 15pF.", 10 DGND (power) "Digital Ground: The DGND pin defines the potential from which LOGIC levels VIH and VIL for the 3-wire serial digital interface are referenced. The recommended connection of DGND depends on how power is applied to the LTC6912 (See Datasheet)", 11 NC, 12 V+ (power) "Power Supply Pins. The V+ and V- pins should be bypassed with 0.1uF capacitors to an adequate analog ground plane using the shortest possible wiring. Electrically clean supplies and a low impedance ground are important for (See Datasheet)", 13 OUT B (hiz) "Analog Output. These pins are the output of the A and B channel amplifiers respectively. Each operational amplifier can swing rail-to-rail (V+ to V-) as specified in the Electrical Characteristics table. For best (See Datasheet)", 14 V- (power) "Power Supply Pins. The V+ and V- pins should be bypassed with 0.1uF capacitors to an adequate analog ground plane using the shortest possible wiring. Electrically clean supplies and a low impedance ground are important for (See Datasheet)", 15 OUT A (hiz) "Analog Output. These pins are the output of the A and B channel amplifiers respectively. Each operational amplifier can swing rail-to-rail (V+ to V-) as specified in the Electrical Characteristics table. For best (See Datasheet)", 16 NC

## LTC6912HGN-1#TR
designator U?
Dual Channel, Dual Programmable Gain Amplifier with Serial Digital Interface, 30 MHz Typical GBW, 16 V/us Typical SR, 2.7 to 10.5 V, 16-Pin SOP (GN-16), High Temperature / Automotive, Reel; Linear Technology Part Number: LTC6912-1; Manufacturer: Linear Technology; PartNumber: LTC6912HGN-1#TR; Channels (#): 2; GBW (MHz) Typical: 30; Is (mA) Typical: 1.75; SR (V/us) Typical: 16; Vs Max (V): 10.5; Vs Min (V): 2.7; DatasheetVersion: Rev. A; PackageVersion: Rev B; PackageReference: LT-GN-16; PackageDescription: 16-Lead Plastic SSOP, Body 4.9 x 3.9 mm, Pitch 0.635 mm; Packing: Reel; Type: PGA; Vos (mV) Typical: 2; Mounting Technology: Surface Mount; ComponentLink1Description: Manufacturer URL; ComponentLink1URL: http://www.linear.com/; ComponentLink2Description: Datasheet; ComponentLink2URL: http://cds.linear.com/docs/en/datasheet/6912fa.pdf; ComponentLink3Description: Package Specification; ComponentLink3URL: http://cds.linear.com/docs/en/packaging/05081641_B_GN16.pdf
footprint LT-GN-16_N (SOP, 16-Leads, Body 4.9x3.9mm, Pitch 0.635mm, IPC Medium Density)
footprint LT-GN-16_L (SOP, 16-Leads, Body 4.9x3.9mm, Pitch 0.635mm, IPC High Density)
footprint LT-GN-16_M (SOP, 16-Leads, Body 4.9x3.9mm, Pitch 0.635mm, IPC Low Density)
pins: 1 NC, 2 INA (in) "Analog Inputs. The input signal to the A channel amplifier of the LTC6912-X is the voltage difference between the INA pin and AGND pin. Likewise, the input signal to the B channel amplifier of the LTC6912-X is the voltage (See Datasheet)", 3 AGND (power), 4 INB (in) "Analog Inputs. The input signal to the A channel amplifier of the LTC6912-X is the voltage difference between the INA pin and AGND pin. Likewise, the input signal to the B channel amplifier of the LTC6912-X is the voltage (See Datasheet)", 5 SHDN (in) "CMOS Compatible Logic Hardware Shutdown Input. The LTC6912-X has two shutdown modes. One is a software shutdown state which can be software programmed into either Channel A, Channel B, or both. The software shutdown, when (See Datasheet)", 6 ~{CS}/LD (in) "TTL/CMOS Compatible Logic Input. When this pin is asserted low, the CLK pin is enabled, and the 8-bit shift register serially shifts the shift register contents and whatever data is present on the DIN pin into the shift (See Datasheet)", 7 DIN (in) "TTL/CMOS Compatible Logic Serial Data Input. The serial interface is synchronously loaded MSB first via DIN on the rising edge of CLK with C\S\/LD asserted low.", 8 CLK (in) "TTL/CMOS Compatible Logic Input. With C\S\/LD asserted low, the clock synchronizes the loading of the serial shift register on its rising and falling edges. Data is shifted in at DIN on the rising edge of CLK and is shifted (See Datasheet)", 9 DOUT (out) "TTL/CMOS Compatible Logic Output. The MSB of the shift register contents is shifted out at DOUT on the falling edge of CLK. The output at DOUT swings between V+ and DGND, and is rated to drive approximately 15pF.", 10 DGND (power) "Digital Ground: The DGND pin defines the potential from which LOGIC levels VIH and VIL for the 3-wire serial digital interface are referenced. The recommended connection of DGND depends on how power is applied to the LTC6912 (See Datasheet)", 11 NC, 12 V+ (power) "Power Supply Pins. The V+ and V- pins should be bypassed with 0.1uF capacitors to an adequate analog ground plane using the shortest possible wiring. Electrically clean supplies and a low impedance ground are important for (See Datasheet)", 13 OUT B (hiz) "Analog Output. These pins are the output of the A and B channel amplifiers respectively. Each operational amplifier can swing rail-to-rail (V+ to V-) as specified in the Electrical Characteristics table. For best (See Datasheet)", 14 V- (power) "Power Supply Pins. The V+ and V- pins should be bypassed with 0.1uF capacitors to an adequate analog ground plane using the shortest possible wiring. Electrically clean supplies and a low impedance ground are important for (See Datasheet)", 15 OUT A (hiz) "Analog Output. These pins are the output of the A and B channel amplifiers respectively. Each operational amplifier can swing rail-to-rail (V+ to V-) as specified in the Electrical Characteristics table. For best (See Datasheet)", 16 NC

## LTC6912HGN-1#TRPBF
designator U?
Dual Channel, Dual Programmable Gain Amplifier with Serial Digital Interface, 30 MHz Typical GBW, 16 V/us Typical SR, 2.7 to 10.5 V, 16-Pin SOP (GN-16), High Temperature / Automotive, Pb-Free, Reel; Linear Technology Part Number: LTC6912-1; Manufacturer: Linear Technology; PartNumber: LTC6912HGN-1#TRPBF; Channels (#): 2; GBW (MHz) Typical: 30; Is (mA) Typical: 1.75; SR (V/us) Typical: 16; Vs Max (V): 10.5; Vs Min (V): 2.7; DatasheetVersion: Rev. A; PackageVersion: Rev B; PackageReference: LT-GN-16; PackageDescription: 16-Lead Plastic SSOP, Body 4.9 x 3.9 mm, Pitch 0.635 mm; Supplier 1: Digi-Key; Supplier Part Number 1: LTC6912HGN-1#TRPBF-ND; Packing: Reel; RoHS: Pb-Free; Type: PGA; Vos (mV) Typical: 2; Mounting Technology: Surface Mount; ComponentLink1Description: Manufacturer URL; ComponentLink1URL: http://www.linear.com/; ComponentLink2Description: Datasheet; ComponentLink2URL: http://cds.linear.com/docs/en/datasheet/6912fa.pdf; ComponentLink3Description: Package Specification; ComponentLink3URL: http://cds.linear.com/docs/en/packaging/05081641_B_GN16.pdf
footprint LT-GN-16_N (SOP, 16-Leads, Body 4.9x3.9mm, Pitch 0.635mm, IPC Medium Density)
footprint LT-GN-16_L (SOP, 16-Leads, Body 4.9x3.9mm, Pitch 0.635mm, IPC High Density)
footprint LT-GN-16_M (SOP, 16-Leads, Body 4.9x3.9mm, Pitch 0.635mm, IPC Low Density)
pins: 1 NC, 2 INA (in) "Analog Inputs. The input signal to the A channel amplifier of the LTC6912-X is the voltage difference between the INA pin and AGND pin. Likewise, the input signal to the B channel amplifier of the LTC6912-X is the voltage (See Datasheet)", 3 AGND (power), 4 INB (in) "Analog Inputs. The input signal to the A channel amplifier of the LTC6912-X is the voltage difference between the INA pin and AGND pin. Likewise, the input signal to the B channel amplifier of the LTC6912-X is the voltage (See Datasheet)", 5 SHDN (in) "CMOS Compatible Logic Hardware Shutdown Input. The LTC6912-X has two shutdown modes. One is a software shutdown state which can be software programmed into either Channel A, Channel B, or both. The software shutdown, when (See Datasheet)", 6 ~{CS}/LD (in) "TTL/CMOS Compatible Logic Input. When this pin is asserted low, the CLK pin is enabled, and the 8-bit shift register serially shifts the shift register contents and whatever data is present on the DIN pin into the shift (See Datasheet)", 7 DIN (in) "TTL/CMOS Compatible Logic Serial Data Input. The serial interface is synchronously loaded MSB first via DIN on the rising edge of CLK with C\S\/LD asserted low.", 8 CLK (in) "TTL/CMOS Compatible Logic Input. With C\S\/LD asserted low, the clock synchronizes the loading of the serial shift register on its rising and falling edges. Data is shifted in at DIN on the rising edge of CLK and is shifted (See Datasheet)", 9 DOUT (out) "TTL/CMOS Compatible Logic Output. The MSB of the shift register contents is shifted out at DOUT on the falling edge of CLK. The output at DOUT swings between V+ and DGND, and is rated to drive approximately 15pF.", 10 DGND (power) "Digital Ground: The DGND pin defines the potential from which LOGIC levels VIH and VIL for the 3-wire serial digital interface are referenced. The recommended connection of DGND depends on how power is applied to the LTC6912 (See Datasheet)", 11 NC, 12 V+ (power) "Power Supply Pins. The V+ and V- pins should be bypassed with 0.1uF capacitors to an adequate analog ground plane using the shortest possible wiring. Electrically clean supplies and a low impedance ground are important for (See Datasheet)", 13 OUT B (hiz) "Analog Output. These pins are the output of the A and B channel amplifiers respectively. Each operational amplifier can swing rail-to-rail (V+ to V-) as specified in the Electrical Characteristics table. For best (See Datasheet)", 14 V- (power) "Power Supply Pins. The V+ and V- pins should be bypassed with 0.1uF capacitors to an adequate analog ground plane using the shortest possible wiring. Electrically clean supplies and a low impedance ground are important for (See Datasheet)", 15 OUT A (hiz) "Analog Output. These pins are the output of the A and B channel amplifiers respectively. Each operational amplifier can swing rail-to-rail (V+ to V-) as specified in the Electrical Characteristics table. For best (See Datasheet)", 16 NC

## LTC6912HGN-2
designator U?
Dual Channel, Dual Programmable Gain Amplifier with Serial Digital Interface, 30 MHz Typical GBW, 16 V/us Typical SR, 2.7 to 10.5 V, 16-Pin SOP (GN-16), High Temperature / Automotive; Linear Technology Part Number: LTC6912-2; Manufacturer: Linear Technology; PartNumber: LTC6912HGN-2; Channels (#): 2; GBW (MHz) Typical: 30; Is (mA) Typical: 1.75; SR (V/us) Typical: 16; Vs Max (V): 10.5; Vs Min (V): 2.7; DatasheetVersion: Rev. A; PackageVersion: Rev B; PackageReference: LT-GN-16; PackageDescription: 16-Lead Plastic SSOP, Body 4.9 x 3.9 mm, Pitch 0.635 mm; Type: PGA; Vos (mV) Typical: 2; Mounting Technology: Surface Mount; ComponentLink1Description: Manufacturer URL; ComponentLink1URL: http://www.linear.com/; ComponentLink2Description: Datasheet; ComponentLink2URL: http://cds.linear.com/docs/en/datasheet/6912fa.pdf; ComponentLink3Description: Package Specification; ComponentLink3URL: http://cds.linear.com/docs/en/packaging/05081641_B_GN16.pdf
footprint LT-GN-16_N (SOP, 16-Leads, Body 4.9x3.9mm, Pitch 0.635mm, IPC Medium Density)
footprint LT-GN-16_L (SOP, 16-Leads, Body 4.9x3.9mm, Pitch 0.635mm, IPC High Density)
footprint LT-GN-16_M (SOP, 16-Leads, Body 4.9x3.9mm, Pitch 0.635mm, IPC Low Density)
pins: 1 NC, 2 INA (in) "Analog Inputs.", 3 AGND (power) "Analog Ground.", 4 INB (in) "Analog Inputs.", 5 SHDN (in) "CMOS Compatible Logic Hardware Shutdown Input.", 6 ~{CS}/LD (in) "TTL/CMOS Compatible Logic Input.", 7 DIN (in) "TTL/CMOS Compatible Logic Serial Data Input.", 8 CLK (in) "TTL/CMOS Compatible Logic Input.", 9 DOUT (out) "TTL/CMOS Compatible Logic Output.", 10 DGND (power) "Digital Ground: The DGND pin defines the potential from which LOGIC levels VIH and VIL for the 3-wire serial digital interface are referenced.", 11 NC, 12 V+ (power) "Power Supply Pins.", 13 OUT B (out) "Analog Output.", 14 V- (power) "Power Supply Pins.", 15 OUT A (out) "Analog Output.", 16 NC

## LTC6912HGN-2#PBF
designator U?
Dual Channel, Dual Programmable Gain Amplifier with Serial Digital Interface, 30 MHz Typical GBW, 16 V/us Typical SR, 2.7 to 10.5 V, 16-Pin SOP (GN-16), High Temperature / Automotive, Pb-Free; Linear Technology Part Number: LTC6912-2; Manufacturer: Linear Technology; PartNumber: LTC6912HGN-2#PBF; Channels (#): 2; GBW (MHz) Typical: 30; Is (mA) Typical: 1.75; SR (V/us) Typical: 16; Vs Max (V): 10.5; Vs Min (V): 2.7; DatasheetVersion: Rev. A; PackageVersion: Rev B; PackageReference: LT-GN-16; PackageDescription: 16-Lead Plastic SSOP, Body 4.9 x 3.9 mm, Pitch 0.635 mm; Supplier 1: Digi-Key; Supplier Part Number 1: LTC6912HGN-2#PBF-ND; Supplier 2: Farnell; Supplier Part Number 2: 1330981; Supplier 3: Newark; Supplier Part Number 3: 57M0409; RoHS: Pb-Free; Type: PGA; Vos (mV) Typical: 2; Mounting Technology: Surface Mount; ComponentLink1Description: Manufacturer URL; ComponentLink1URL: http://www.linear.com/; ComponentLink2Description: Datasheet; ComponentLink2URL: http://cds.linear.com/docs/en/datasheet/6912fa.pdf; ComponentLink3Description: Package Specification; ComponentLink3URL: http://cds.linear.com/docs/en/packaging/05081641_B_GN16.pdf
footprint LT-GN-16_N (SOP, 16-Leads, Body 4.9x3.9mm, Pitch 0.635mm, IPC Medium Density)
footprint LT-GN-16_L (SOP, 16-Leads, Body 4.9x3.9mm, Pitch 0.635mm, IPC High Density)
footprint LT-GN-16_M (SOP, 16-Leads, Body 4.9x3.9mm, Pitch 0.635mm, IPC Low Density)
pins: 1 NC, 2 INA (in) "Analog Inputs.", 3 AGND (power) "Analog Ground.", 4 INB (in) "Analog Inputs.", 5 SHDN (in) "CMOS Compatible Logic Hardware Shutdown Input.", 6 ~{CS}/LD (in) "TTL/CMOS Compatible Logic Input.", 7 DIN (in) "TTL/CMOS Compatible Logic Serial Data Input.", 8 CLK (in) "TTL/CMOS Compatible Logic Input.", 9 DOUT (out) "TTL/CMOS Compatible Logic Output.", 10 DGND (power) "Digital Ground: The DGND pin defines the potential from which LOGIC levels VIH and VIL for the 3-wire serial digital interface are referenced.", 11 NC, 12 V+ (power) "Power Supply Pins.", 13 OUT B (out) "Analog Output.", 14 V- (power) "Power Supply Pins.", 15 OUT A (out) "Analog Output.", 16 NC

## LTC6912HGN-2#TR
designator U?
Dual Channel, Dual Programmable Gain Amplifier with Serial Digital Interface, 30 MHz Typical GBW, 16 V/us Typical SR, 2.7 to 10.5 V, 16-Pin SOP (GN-16), High Temperature / Automotive, Reel; Linear Technology Part Number: LTC6912-2; Manufacturer: Linear Technology; PartNumber: LTC6912HGN-2#TR; Channels (#): 2; GBW (MHz) Typical: 30; Is (mA) Typical: 1.75; SR (V/us) Typical: 16; Vs Max (V): 10.5; Vs Min (V): 2.7; DatasheetVersion: Rev. A; PackageVersion: Rev B; PackageReference: LT-GN-16; PackageDescription: 16-Lead Plastic SSOP, Body 4.9 x 3.9 mm, Pitch 0.635 mm; Packing: Reel; Type: PGA; Vos (mV) Typical: 2; Mounting Technology: Surface Mount; ComponentLink1Description: Manufacturer URL; ComponentLink1URL: http://www.linear.com/; ComponentLink2Description: Datasheet; ComponentLink2URL: http://cds.linear.com/docs/en/datasheet/6912fa.pdf; ComponentLink3Description: Package Specification; ComponentLink3URL: http://cds.linear.com/docs/en/packaging/05081641_B_GN16.pdf
footprint LT-GN-16_N (SOP, 16-Leads, Body 4.9x3.9mm, Pitch 0.635mm, IPC Medium Density)
footprint LT-GN-16_L (SOP, 16-Leads, Body 4.9x3.9mm, Pitch 0.635mm, IPC High Density)
footprint LT-GN-16_M (SOP, 16-Leads, Body 4.9x3.9mm, Pitch 0.635mm, IPC Low Density)
pins: 1 NC, 2 INA (in) "Analog Inputs.", 3 AGND (power) "Analog Ground.", 4 INB (in) "Analog Inputs.", 5 SHDN (in) "CMOS Compatible Logic Hardware Shutdown Input.", 6 ~{CS}/LD (in) "TTL/CMOS Compatible Logic Input.", 7 DIN (in) "TTL/CMOS Compatible Logic Serial Data Input.", 8 CLK (in) "TTL/CMOS Compatible Logic Input.", 9 DOUT (out) "TTL/CMOS Compatible Logic Output.", 10 DGND (power) "Digital Ground: The DGND pin defines the potential from which LOGIC levels VIH and VIL for the 3-wire serial digital interface are referenced.", 11 NC, 12 V+ (power) "Power Supply Pins.", 13 OUT B (out) "Analog Output.", 14 V- (power) "Power Supply Pins.", 15 OUT A (out) "Analog Output.", 16 NC